# EAGLE library part LP2951 (library v-reg)
Regulator Adjustable Micropower, 100mA
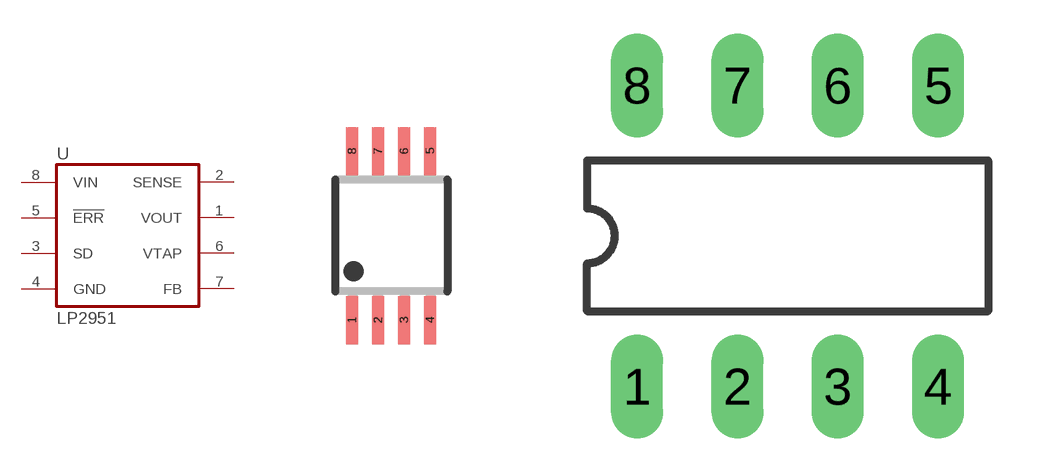
[diagram p16: symbol with the pads of MSOP08; footprints MSOP08, DIL08]

Designator prefix U

## LP2951MM  [MSOP08]
1  VOUT  pas
2  SENSE  pas
3  SD  pas
4  GND  pas
5  !ERR  out
6  VTAP  pas
7  FB  pas
8  VIN  in

## LP2951N  [DIL08]
Pads as for MSOP08

## LP2951M  [SO08]
Pads as for MSOP08

## Footprint MSOP08 (pad centres in mm)
Mini Small Outline Package
smd 0.3 x 1.2: 1 -0.976,-2.113; 2 -0.326,-2.113; 3 0.324,-2.113; 4 0.974,-2.113; 5 0.974,2.112; 6 0.324,2.112; 7 -0.326,2.112; 8 -0.976,2.112

## Footprint DIL08 (pad centres in mm)
Dual In Line Package
drill 0.813 long: 1 -3.81,-3.81; 2 -1.27,-3.81; 3 1.27,-3.81; 4 3.81,-3.81; 5 3.81,3.81; 6 1.27,3.81; 7 -1.27,3.81; 8 -3.81,3.81

## Footprint SO08 (pad centres in mm)
SMALL OUTLINE INTEGRATED CIRCUIT body 3.9 mm/JEDEC MS-012AA
smd 0.6 x 2.2: 1 -1.905,-2.6; 2 -0.635,-2.6; 3 0.635,-2.6; 4 1.905,-2.6; 5 1.905,2.6; 6 0.635,2.6; 7 -0.635,2.6; 8 -1.905,2.6